# Altium schematic symbol library Project_Oshinoko.SchLib: 248 symbols (part 2 of 3)
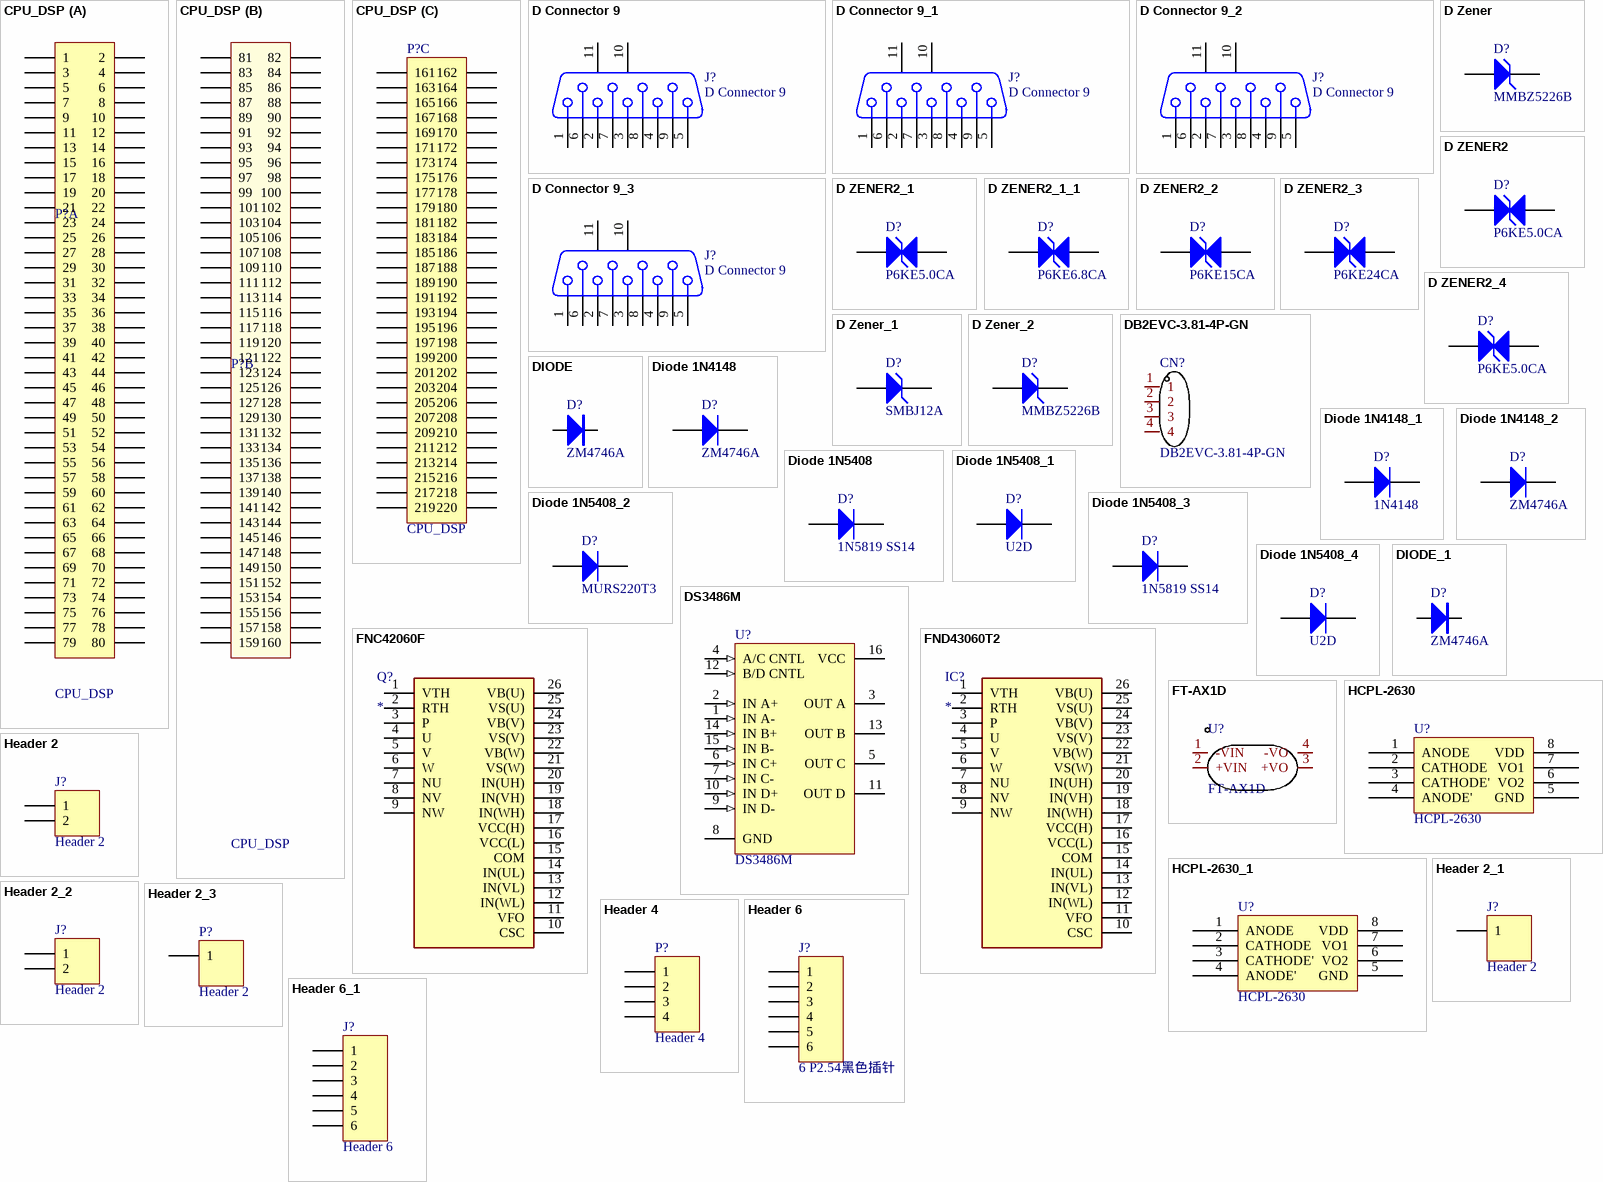
[diagram p8: symbols CPU_DSP to Header 6_1]

## Diode 1N5408_1
designator D?, comment U2D
3 Amp Medium Power Silicon Rectifier Diode; Published: 8-Jun-2000; LatestRevisionDate: 17-Jul-2002; LatestRevisionNote: Re-released for DXP Platform.; DatasheetVersion: Aug-1984; PackageReference: DO-201AD; Publisher: Altium Limited; PackageDescription: Diode, Axial; Body 9.5 x 5.3 mm (LxDia. max), Lead Dia. 1.32 mm (max); ComponentLink1Description: Manufacturer Link; ComponentLink1URL: http://www.irf.com/
footprint DO214AC
simulation model 1N5408 (DIODE)
signal-integrity model 1N5408
pins: 1, 2

## Diode 1N5408_2
designator D?, comment MURS220T3
3 Amp Medium Power Silicon Rectifier Diode; Published: 8-Jun-2000; LatestRevisionDate: 17-Jul-2002; LatestRevisionNote: Re-released for DXP Platform.; DatasheetDocument: Aug-1984; PackageReference: DO-201AD; Publisher: Altium Limited; ComponentLink1Description: Manufacturer Link; ComponentLink1URL: http://www.irf.com/
footprint DO214AA
simulation model 1N5408 (DIODE)
signal-integrity model 1N5408
pins: 1 A, 2 K

## Diode 1N5408_3
designator D?, comment 1N5819 SS14
3 Amp Medium Power Silicon Rectifier Diode; Published: 8-Jun-2000; LatestRevisionDate: 17-Jul-2002; LatestRevisionNote: Re-released for DXP Platform.; DatasheetDocument: Aug-1984; PackageReference: DO-201AD; Publisher: Altium Limited; ComponentLink1Description: Manufacturer Link; ComponentLink1URL: http://www.irf.com/
footprint DO214AC
simulation model 1N5408 (DIODE)
signal-integrity model 1N5408
pins: 1, 2

## Diode 1N5408_4
designator D?, comment U2D
3 Amp Medium Power Silicon Rectifier Diode; Published: 8-Jun-2000; LatestRevisionDate: 17-Jul-2002; LatestRevisionNote: Re-released for DXP Platform.; DatasheetVersion: Aug-1984; PackageReference: DO-201AD; Publisher: Altium Limited; PackageDescription: Diode, Axial; Body 9.5 x 5.3 mm (LxDia. max), Lead Dia. 1.32 mm (max); ComponentLink1Description: Manufacturer Link; ComponentLink1URL: http://www.irf.com/
footprint DO214AC
simulation model 1N5408 (DIODE)
signal-integrity model 1N5408
pins: 1, 2

## DIODE_1
designator D?, comment ZM4746A
Diode
footprint D/6/0.5/R2
footprint D/8/0.5/R2
footprint D/10/1/R1
footprint D/1206
footprint LL4148
pins: 1 A, 2 K

## DS3486M
designator U?
Quad RS-422, RS-423 Line Receiver; Published: 15-Apr-2002; LatestRevisionDate: 13-Apr-2006; LatestRevisionNote: IPC-7351 Footprint Added.; DatasheetVersion: May-1998; PackageVersion: 2000; PackageReference: M16A; Publisher: Altium Limited; PackageDescription: 16-Pin Small Outline Integrated Circuit 1.27 mm Pitch; Code_IPC: SOIC127P600-16; ComponentLink1Description: Manufacturer Link; ComponentLink1URL: http://www.national.com/; ComponentLink2Description: Datasheet; ComponentLink2URL: http://www.national.com/ds.cgi/DS/DS3486.pdf; ComponentLink3Description: URL Link1; ComponentLink3URL: http://www.national.com/pf/DS/DS3486.html
footprint M16A_N (SOIC, 16-Leads, Body 9.9x3.9mm, Pitch 1.27mm, IPC Medium Density)
footprint M16A_L (SOIC, 16-Leads, Body 9.9x3.9mm, Pitch 1.27mm, IPC High Density)
footprint M16A_M (SOIC, 16-Leads, Body 9.9x3.9mm, Pitch 1.27mm, IPC Low Density)
3D model M16A (16-Pin Small Outline Integrated Circuit 1.27 mm Pitch)
pins: 1 IN A- (in), 2 IN A+ (in), 3 OUT A (hiz), 4 A/C CNTL (in), 5 OUT C (hiz), 6 IN C+ (in), 7 IN C- (in), 8 GND (power), 9 IN D- (in), 10 IN D+ (in), 11 OUT D (hiz), 12 B/D CNTL (in), 13 OUT B (hiz), 14 IN B+ (in), 15 IN B- (in), 16 VCC (power)

## FNC42060F
designator Q?
Transistor IGBT; Manufacturer_Name: Aptina / ON Semiconductor; Manufacturer_Part_Number: FNC42060F; Datasheet Link: https://www.onsemi.com/pdf/datasheet/fnc42060f2-d.pdf; Height: 4.8mm; Mouser Part Number: 512-FNC42060F; Mouser Price/Stock: https://www.mouser.co.uk/ProductDetail/onsemi-Fairchild/FNC42060F?qs=udYk%2FVsBYxunyypMBLcvag%3D%3D
footprint FNC42060F
pins: 1 VTH, 2 RTH, 3 P, 4 U, 5 V, 6 W, 7 NU, 8 NV, 9 NW, 10 CSC, 11 VFO, 12 IN(WL), 13 IN(VL), 14 IN(UL), 15 COM, 16 VCC(L), 17 VCC(H), 18 IN(WH), 19 IN(VH), 20 IN(UH), 21 VS(W), 22 VB(W), 23 VS(V), 24 VB(V), 25 VS(U), 26 VB(U)

## FND43060T2
designator IC?
Integrated Circuit; Manufacturer_Name: onsemi; Manufacturer_Part_Number: FND43060T2; Datasheet Link: https://www.arrow.com/en/products/fnd43060t2/on-semiconductor; Height: 7.5mm; Mouser Part Number: 863-FND43060T2; Mouser Price/Stock: https://www.mouser.co.uk/ProductDetail/onsemi/FND43060T2?qs=2WXlatMagcHNgLgLax1Qtg%3D%3D; Arrow Part Number: FND43060T2; Arrow Price/Stock: https://www.arrow.com/en/products/fnd43060t2/on-semiconductor?region=nac
footprint FND43060T2
pins: 1 VTH, 2 RTH, 3 P, 4 U, 5 V, 6 W, 7 NU, 8 NV, 9 NW, 10 CSC, 11 VFO, 12 IN(WL), 13 IN(VL), 14 IN(UL), 15 COM, 16 VCC(L), 17 VCC(H), 18 IN(WH), 19 IN(VH), 20 IN(UH), 21 VS(W), 22 VB(W), 23 VS(V), 24 VB(V), 25 VS(U), 26 VB(U)

## FT-AX1D
designator U?
Manufacturer: MORNSUN(金升阳); Add into BOM: yes; Symbol: FT-AX1D; Device: FT-AX1D; LCSC Part Name: FT-AX1D; Supplier Part: C5127623; Manufacturer Part: FT-AX1D; Supplier Footprint: 插件; JLCPCB Part Class: 扩展库; Datasheet: https://atta.szlcsc.com/upload/public/pdf/source/20220812/46717D78754D3A4E3C88374812D1964E.pdf; Supplier: LCSC; Convert to PCB: yes; Name: FT-AX1D
footprint PWRM-TH_MORNSUN_FT-AX1D
3D model PWRM-TH_MORNSUN_FT-AX1D
footprint PWRM-TH_MORNSUN_FT-AX1D
pins: 1 -VIN, 2 +VIN, 3 +VO, 4 -VO

## HCPL-2630
designator U?
footprint DIP8
pins: 1 ANODE, 2 CATHODE, 3 CATHODE', 4 ANODE', 5 GND, 6 VO2, 7 VO1, 8 VDD

## HCPL-2630_1
designator U?, comment HCPL-2630
footprint DIP8
pins: 1 ANODE, 2 CATHODE, 3 CATHODE', 4 ANODE', 5 GND, 6 VO2, 7 VO1, 8 VDD

## Header 2
designator J?
Header, 2-Pin; LatestRevisionDate: 17-Jul-2002; LatestRevisionNote: Re-released for DXP Platform.; Publisher: Altium Limited
footprint 381S-2
signal-integrity model Connector
pins: 1, 2

## Header 2_1
designator J?, comment Header 2
Header, 2-Pin; LatestRevisionDate: 17-Jul-2002; LatestRevisionNote: Re-released for DXP Platform.; Publisher: Altium Limited
footprint 接地柱M3
signal-integrity model Connector
pins: 1

## Header 2_2
designator J?, comment Header 2
Header, 2-Pin; LatestRevisionDate: 17-Jul-2002; LatestRevisionNote: Re-released for DXP Platform.; Publisher: Altium Limited
footprint 381S-2
signal-integrity model Connector
pins: 1, 2

## Header 2_3
designator P?, comment Header 2
Header, 2-Pin; LatestRevisionDate: 17-Jul-2002; LatestRevisionNote: Re-released for DXP Platform.; Publisher: Altium Limited
footprint PCB焊接端子
signal-integrity model Connector
pins: 1

## Header 4
designator P?
Header, 4-Pin; LatestRevisionDate: 17-Jul-2002; LatestRevisionNote: Re-released for DXP Platform.; Publisher: Altium Limited
footprint 381S-4
signal-integrity model Connector
pins: 1, 2, 3, 4

## Header 6
designator J?, comment 6 P2.54黑色插针
Header, 6-Pin; LatestRevisionDate: 17-Jul-2002; LatestRevisionNote: Re-released for DXP Platform.; Publisher: Altium Limited
footprint 6P 100mil
signal-integrity model Connector
pins: 1, 2, 3, 4, 5, 6

## Header 6_1
designator J?, comment Header 6
Header, 6-Pin; LatestRevisionDate: 17-Jul-2002; LatestRevisionNote: Re-released for DXP Platform.; Publisher: Altium Limited
footprint 381S-6
signal-integrity model Connector
pins: 1, 2, 3, 4, 5, 6

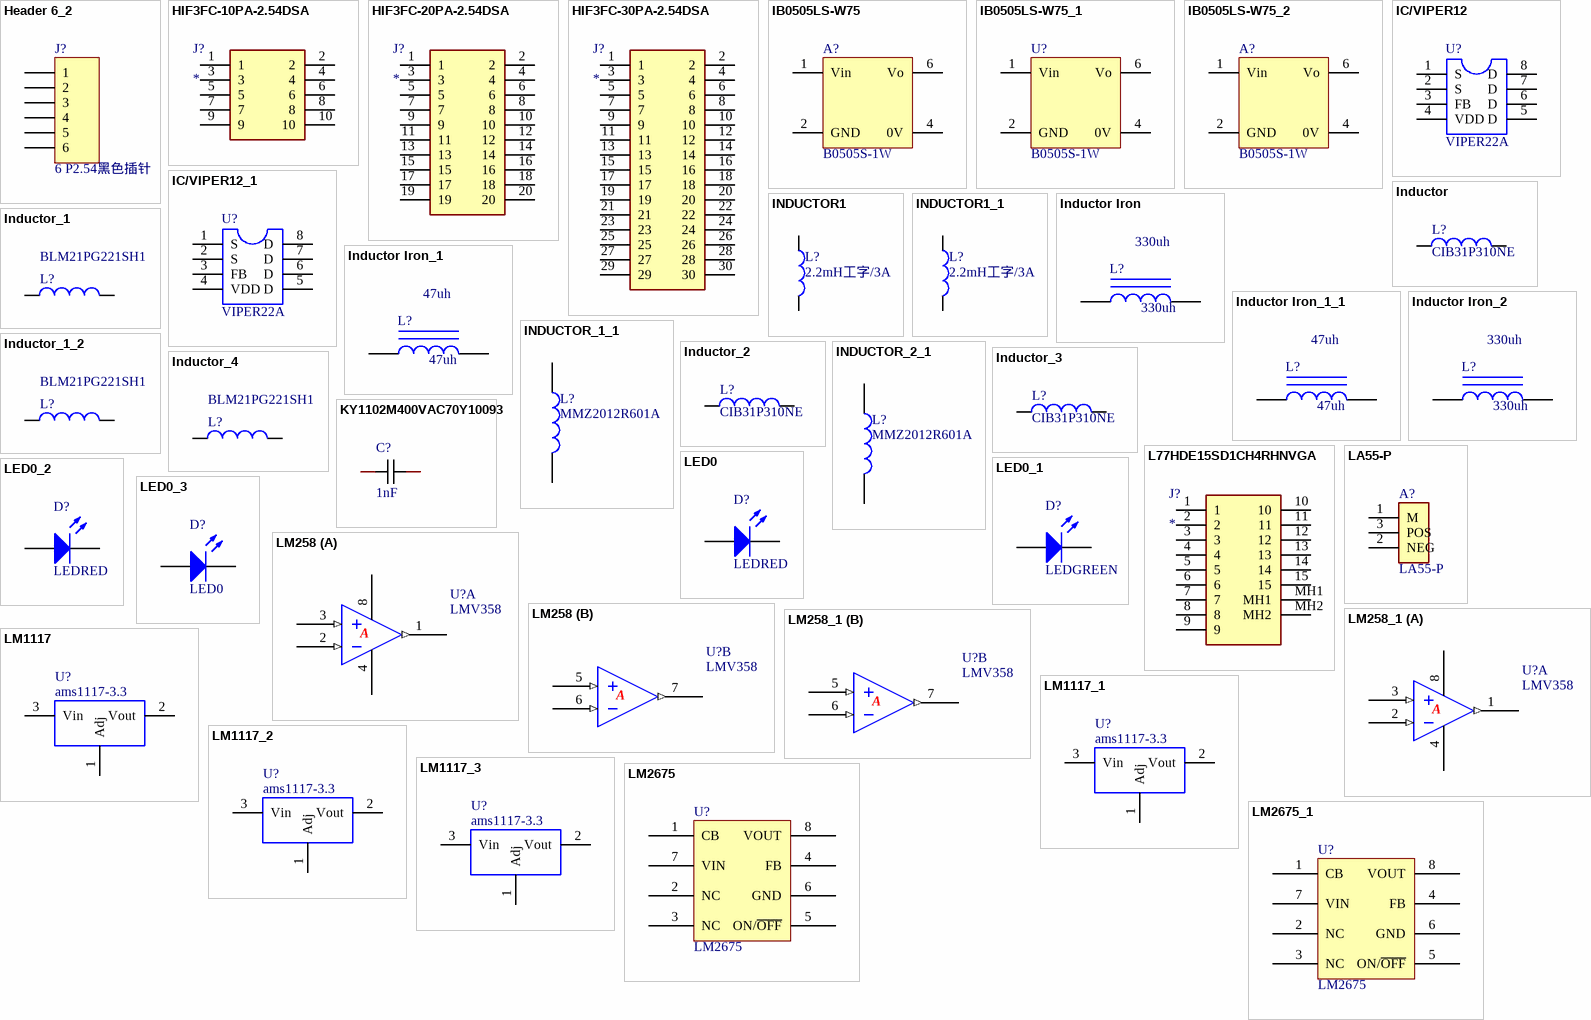
[diagram p3: symbols Header 6_2 to LM2675_1]

## Header 6_2
designator J?, comment 6 P2.54黑色插针
Header, 6-Pin; LatestRevisionDate: 17-Jul-2002; LatestRevisionNote: Re-released for DXP Platform.; Publisher: Altium Limited
footprint 6P 100mil
signal-integrity model Connector
pins: 1, 2, 3, 4, 5, 6

## HIF3FC-10PA-2.54DSA
designator J?
Connector; Manufacturer_Name: Hirose; Manufacturer_Part_Number: HIF3FC-10PA-2.54DSA(71); Datasheet Link: https://componentsearchengine.com/Datasheets/1/HIF3FC-10PA-2.54DSA(71).pdf; Height: 9.2mm; Mouser Part Number: 798-HIF3FC10PA254D71; Mouser Price/Stock: https://www.mouser.co.uk/ProductDetail/Hirose-Connector/HIF3FC-10PA-2.54DSA71?qs=eDUdFcBPps26f2LJxn%252B8VA%3D%3D
footprint SHDR10W50P254_2X5_2020X850X920P
pins: 1, 2, 3, 4, 5, 6, 7, 8, 9, 10

## HIF3FC-20PA-2.54DSA
designator J?
Connector; Manufacturer_Name: Hirose; Manufacturer_Part_Number: HIF3FC-20PA-2.54DSA(71); Datasheet Link: https://www.hirose.com/product/en/products/HIF3FC/HIF3FC-20PA-2.54DSA%2871%29/; Height: 9.5mm; Mouser Part Number: 798-HIF3FC20PA254D71; Mouser Price/Stock: https://www.mouser.co.uk/ProductDetail/Hirose-Connector/HIF3FC-20PA-254DSA71?qs=eDUdFcBPps3XO21sCrEU%252BQ%3D%3D; Arrow Part Number: HIF3FC-20PA-2.54DSA(71); Arrow Price/Stock: https://www.arrow.com/en/products/hif3fc-20pa-2.54dsa-71/hirose-electric?region=nac
footprint SHDR20W56P254_2X10_3290X850X950P
pins: 1, 2, 3, 4, 5, 6, 7, 8, 9, 10, 11, 12, 13, 14, 15, 16, 17, 18, 19, 20

## HIF3FC-30PA-2.54DSA
designator J?
Connector; Manufacturer_Name: Hirose; Manufacturer_Part_Number: HIF3FC-30PA-2.54DSA(71); Datasheet Link: https://datasheet.datasheetarchive.com/originals/distributors/SFDatasheet-7/sf-000141320.pdf; Height: 12mm; Mouser Part Number: 798-HIF3FC30PA254D71; Mouser Price/Stock: https://www.mouser.co.uk/ProductDetail/Hirose-Connector/HIF3FC-30PA-254DSA71?qs=eDUdFcBPps32%2FyAdBVx6ww%3D%3D
footprint SHDR30W50P254_2X15_4560X850X1200P
pins: 1, 2, 3, 4, 5, 6, 7, 8, 9, 10, 11, 12, 13, 14, 15, 16, 17, 18, 19, 20, 21, 22, 23, 24, 25, 26, 27, 28, 29, 30

## IB0505LS-W75
designator A?, comment B0505S-1W
footprint B0505S-1W
pins: 1 Vin, 2 GND, 4 0V, 6 Vo

## IB0505LS-W75_1
designator U?, comment B0505S-1W
footprint B0505S-1W
pins: 1 Vin, 2 GND, 4 0V, 6 Vo

## IB0505LS-W75_2
designator A?, comment B0505S-1W
footprint B0505S-1W
pins: 1 Vin, 2 GND, 4 0V, 6 Vo

## IC/VIPER12
designator U?, comment VIPER22A
footprint DIP8
pins: 1 S, 2 S, 3 FB, 4 VDD, 5 D, 6 D, 7 D, 8 D
2 alternate drawings of the same symbol

## IC/VIPER12_1
designator U?, comment VIPER22A
footprint DIP8
pins: 1 S, 2 S, 3 FB, 4 VDD, 5 D, 6 D, 7 D, 8 D
2 alternate drawings of the same symbol

## Inductor
designator L?, comment CIB31P310NE
Inductor; Code_IEC: 1005; Published: 8-Jun-2000; LatestRevisionDate: 17-Jul-2002; LatestRevisionNote: Re-released for DXP Platform.; PackageReference: 0402-A; Publisher: Altium Limited; Code_JEITA: 0402; Value: CIB31P310NE
footprint 0402-A (Chip Inductor; Body 1 x 0.5 mm (LxW typ))
footprint L0603 (Chip Inductor; Body 1.6 x 0.8 mm (LxW typ))
footprint 2012_Chip (2012 Chip; Chip Inductor; Body 2.0 x 1.2 mm (LxW typ))
footprint 2029 (Chip Inductor; Body 2 x 1.2 mm (LxW typ))
footprint 3261 (3216 Chip; Chip Inductor; Body 3.2 x 1.6 mm (LxW typ))
footprint 4564_Chip (4564 Chip; Chip Inductor; Body 4.5 x 6.4 mm (LxW typ))
simulation model INDUCTOR (Inductor)
signal-integrity model Inductor
footprint 1206
pins: 1, 2

## INDUCTOR1
designator L?, comment 2.2mH工字/3A
INDUCTOR
footprint L/9/2/15/10
footprint L\5\10
pins: 1, 2
2 alternate drawings of the same symbol

## INDUCTOR1_1
designator L?, comment 2.2mH工字/3A
INDUCTOR
footprint L/9/2/15/10
footprint L\5\10
pins: 1, 2
2 alternate drawings of the same symbol

## Inductor Iron
designator L?, comment 330uh
Magnetic-Core Inductor; Published: 24-Mar-1999; LatestRevisionDate: 17-Jul-2002; LatestRevisionNote: Re-released for DXP Platform.; PackageReference: AXIAL-0.9; Publisher: Altium Limited; Value: 330uh
footprint L_7*7
simulation model INDUCTOR (Inductor)
signal-integrity model Inductor Iron
pins: 1, 2

## Inductor Iron_1
designator L?, comment 47uh
Magnetic-Core Inductor; Published: 24-Mar-1999; LatestRevisionDate: 17-Jul-2002; LatestRevisionNote: Re-released for DXP Platform.; PackageReference: AXIAL-0.9; Publisher: Altium Limited; Value: 47uh
footprint L_7*7
simulation model INDUCTOR (Inductor)
signal-integrity model Inductor Iron
pins: 1, 2

## Inductor Iron_1_1
designator L?, comment 47uh
Magnetic-Core Inductor; Published: 24-Mar-1999; LatestRevisionDate: 17-Jul-2002; LatestRevisionNote: Re-released for DXP Platform.; PackageReference: AXIAL-0.9; Publisher: Altium Limited; Value: 47uh
footprint L_7*7
simulation model INDUCTOR (Inductor)
signal-integrity model Inductor Iron
pins: 1, 2

## Inductor Iron_2
designator L?, comment 330uh
Magnetic-Core Inductor; Published: 24-Mar-1999; LatestRevisionDate: 17-Jul-2002; LatestRevisionNote: Re-released for DXP Platform.; PackageReference: AXIAL-0.9; Publisher: Altium Limited; Value: 330uh
footprint L_7*7
simulation model INDUCTOR (Inductor)
signal-integrity model Inductor Iron
pins: 1, 2

## Inductor_1
designator L?, comment BLM21PG221SH1
Inductor; Code_IEC: 1005; Published: 8-Jun-2000; LatestRevisionDate: 17-Jul-2002; LatestRevisionNote: Re-released for DXP Platform.; PackageReference: 0402-A; Publisher: Altium Limited; Code_JEITA: 0402; Value: BLM21PG221SH1
footprint 0402-A (Chip Inductor; Body 1 x 0.5 mm (LxW typ))
footprint L0603 (Chip Inductor; Body 1.6 x 0.8 mm (LxW typ))
footprint 2012_Chip (2012 Chip; Chip Inductor; Body 2.0 x 1.2 mm (LxW typ))
footprint 2029 (Chip Inductor; Body 2 x 1.2 mm (LxW typ))
footprint 3261 (3216 Chip; Chip Inductor; Body 3.2 x 1.6 mm (LxW typ))
footprint 4564_Chip (4564 Chip; Chip Inductor; Body 4.5 x 6.4 mm (LxW typ))
simulation model INDUCTOR (Inductor)
signal-integrity model Inductor
footprint 0805
pins: 1, 2

## INDUCTOR_1_1
designator L?, comment MMZ2012R601A
footprint 0805
pins: 1, 2

## Inductor_1_2
designator L?, comment BLM21PG221SH1
Inductor; Code_IEC: 1005; Published: 8-Jun-2000; LatestRevisionDate: 17-Jul-2002; LatestRevisionNote: Re-released for DXP Platform.; PackageReference: 0402-A; Publisher: Altium Limited; Code_JEITA: 0402; Value: BLM21PG221SH1
footprint 0402-A (Chip Inductor; Body 1 x 0.5 mm (LxW typ))
footprint L0603 (Chip Inductor; Body 1.6 x 0.8 mm (LxW typ))
footprint 2012_Chip (2012 Chip; Chip Inductor; Body 2.0 x 1.2 mm (LxW typ))
footprint 2029 (Chip Inductor; Body 2 x 1.2 mm (LxW typ))
footprint 3261 (3216 Chip; Chip Inductor; Body 3.2 x 1.6 mm (LxW typ))
footprint 4564_Chip (4564 Chip; Chip Inductor; Body 4.5 x 6.4 mm (LxW typ))
simulation model INDUCTOR (Inductor)
signal-integrity model Inductor
footprint 0805
pins: 1, 2

## Inductor_2
designator L?, comment CIB31P310NE
Inductor; Code_IEC: 1005; Published: 8-Jun-2000; LatestRevisionDate: 17-Jul-2002; LatestRevisionNote: Re-released for DXP Platform.; PackageReference: 0402-A; Publisher: Altium Limited; Code_JEITA: 0402; Value: CIB31P310NE
footprint 0402-A (Chip Inductor; Body 1 x 0.5 mm (LxW typ))
footprint L0603 (Chip Inductor; Body 1.6 x 0.8 mm (LxW typ))
footprint 2012_Chip (2012 Chip; Chip Inductor; Body 2.0 x 1.2 mm (LxW typ))
footprint 2029 (Chip Inductor; Body 2 x 1.2 mm (LxW typ))
footprint 3261 (3216 Chip; Chip Inductor; Body 3.2 x 1.6 mm (LxW typ))
footprint 4564_Chip (4564 Chip; Chip Inductor; Body 4.5 x 6.4 mm (LxW typ))
simulation model INDUCTOR (Inductor)
signal-integrity model Inductor
footprint 1206
pins: 1, 2

## INDUCTOR_2_1
designator L?, comment MMZ2012R601A
footprint 0805
pins: 1, 2

## Inductor_3
designator L?, comment CIB31P310NE
Inductor; Code_IEC: 1005; Published: 8-Jun-2000; LatestRevisionDate: 17-Jul-2002; LatestRevisionNote: Re-released for DXP Platform.; PackageReference: 0402-A; Publisher: Altium Limited; Code_JEITA: 0402; Value: CIB31P310NE
footprint 0402-A (Chip Inductor; Body 1 x 0.5 mm (LxW typ))
footprint L0603 (Chip Inductor; Body 1.6 x 0.8 mm (LxW typ))
footprint 2012_Chip (2012 Chip; Chip Inductor; Body 2.0 x 1.2 mm (LxW typ))
footprint 2029 (Chip Inductor; Body 2 x 1.2 mm (LxW typ))
footprint 3261 (3216 Chip; Chip Inductor; Body 3.2 x 1.6 mm (LxW typ))
footprint 4564_Chip (4564 Chip; Chip Inductor; Body 4.5 x 6.4 mm (LxW typ))
simulation model INDUCTOR (Inductor)
signal-integrity model Inductor
footprint 1206
pins: 1, 2

## Inductor_4
designator L?, comment BLM21PG221SH1
Inductor; Code_IEC: 1005; Published: 8-Jun-2000; LatestRevisionDate: 17-Jul-2002; LatestRevisionNote: Re-released for DXP Platform.; PackageReference: 0402-A; Publisher: Altium Limited; Code_JEITA: 0402; Value: BLM21PG221SH1
footprint 0402-A (Chip Inductor; Body 1 x 0.5 mm (LxW typ))
footprint L0603 (Chip Inductor; Body 1.6 x 0.8 mm (LxW typ))
footprint 2012_Chip (2012 Chip; Chip Inductor; Body 2.0 x 1.2 mm (LxW typ))
footprint 2029 (Chip Inductor; Body 2 x 1.2 mm (LxW typ))
footprint 3261 (3216 Chip; Chip Inductor; Body 3.2 x 1.6 mm (LxW typ))
footprint 4564_Chip (4564 Chip; Chip Inductor; Body 4.5 x 6.4 mm (LxW typ))
simulation model INDUCTOR (Inductor)
signal-integrity model Inductor
footprint 0805
pins: 1, 2

## KY1102M400VAC70Y10093
designator C?, comment 1nF
等级:Y1;容值:1nF;精度:±20%;电压(AC):400V;; Manufacturer: KNSCHA(科尼盛); Symbol: KY1102M400VAC70Y10093; Add into BOM: yes; Subclass: Y1; Tolerance: ±20%; Voltage(AC): 400V; Name: 1nF; Device: KY1102M400VAC70Y10093; LCSC Part Name: 等级:Y1 1nF ±20% 400V; Supplier Part: C2943996; Manufacturer Part: KY1102M400VAC70Y10093; Supplier Footprint: 插件,P=10mm; Datasheet: https://atta.szlcsc.com/upload/public/pdf/source/20220125/2D2B80E2C5D988A5B116EA64517B63EA.pdf; Supplier: LCSC; Convert to PCB: yes; Value: 1nF
footprint CAP-TH_L7.5-W4.5-P10.00-D0.6
3D model CAP-TH_L7.5-W4.5-P10.00-D0.6
pins: 1, 2

## L77HDE15SD1CH4RHNVGA
designator J?
Connector; Manufacturer_Name: Amphenol; Manufacturer_Part_Number: L77HDE15SD1CH4RHNVGA; Datasheet Link: https://componentsearchengine.com/Datasheets/1/L77HDE15SD1CH4RHNVGA.pdf; Height: 12.55mm; Mouser Part Number: 523-7HDE15SDH4RHNVGA; Mouser Price/Stock: https://www.mouser.co.uk/ProductDetail/Amphenol-Commercial-Products/L77HDE15SD1CH4RHNVGA?qs=f9yNj16SXrKPVxRw%2FcVQYg%3D%3D; Arrow Part Number: L77HDE15SD1CH4RHNVGA; Arrow Price/Stock: https://www.arrow.com/en/products/l77hde15sd1ch4rhnvga/amphenol-fci?region=nac
footprint L77HDE15SD1CH4RHNVGA
pins: 1, 2, 3, 4, 5, 6, 7, 8, 9, 10, 11, 12, 13, 14, 15, MH1, MH2

## LA55-P
designator A?
Current Sensor 50A 1 Channel Hall Effect, Closed Loop Bidirectional Module, Single Pass Through; MF: LEM USA; MP: LA 55-P; Availability: Unavailable; SnapEDA_Link: https://www.snapeda.com/parts/LA%2055-P/LEM%20USA%20Inc./view-part/38924/?ref=snap; Value: *; Package: Module LEM USA; Price: None
footprint XDCR_LA55-P
footprint XDCR_LA55-P
pins: 1 M (power), 2 NEG (power), 3 POS (power)

## LED0
designator D?, comment LEDRED
Typical INFRARED GaAs LED; Published: 8-Jun-2000; LatestRevisionDate: 08-Jul-2005; LatestRevisionNote: Mech Layer 1 removed.; PackageReference: LED-0; Publisher: Altium Limited; PackageDescription: LED; 2 Leads
footprint L0805
simulation model LED0 (Diode)
pins: 1 A, 2 K

## LED0_1
designator D?, comment LEDGREEN
Typical INFRARED GaAs LED; Published: 8-Jun-2000; LatestRevisionDate: 08-Jul-2005; LatestRevisionNote: Mech Layer 1 removed.; PackageReference: LED-0; Publisher: Altium Limited; PackageDescription: LED; 2 Leads
footprint L0805
simulation model LED0 (Diode)
pins: 1 A, 2 K

## LED0_2
designator D?, comment LEDRED
Typical INFRARED GaAs LED; Published: 8-Jun-2000; LatestRevisionDate: 08-Jul-2005; LatestRevisionNote: Mech Layer 1 removed.; PackageReference: LED-0; Publisher: Altium Limited; PackageDescription: LED; 2 Leads
footprint L0805
simulation model LED0 (Diode)
pins: 1 A, 2 K

## LED0_3
designator D?, comment LED0
Typical INFRARED GaAs LED; Published: 8-Jun-2000; LatestRevisionDate: 08-Jul-2005; LatestRevisionNote: Mech Layer 1 removed.; PackageReference: LED-0; Publisher: Altium Limited; PackageDescription: LED; 2 Leads
footprint LED-0 (LED; 2 Leads)
simulation model LED0 (Diode)
footprint 1210 (Footprint not found)
footprint l0805
pins: 1 A, 2 K

## LM258
designator U?, comment LMV358
footprint so-8
part A pins: 1 (out), 2 (in), 3 (in), 4 (power), 8 (power)
part B pins: 5 (in), 6 (in), 7 (out)
part A text: A
part B text: A

## LM258_1
designator U?, comment LMV358
footprint so-8
part A pins: 1 (out), 2 (in), 3 (in), 4 (power), 8 (power)
part B pins: 5 (in), 6 (in), 7 (out)
part A text: A
part B text: A

## LM1117
designator U?, comment ams1117-3.3
footprint SOT-223 (SOT-223/SC-73; 4 Leads; Body 6.7 x 7.3 mm, inc. leads (LxW max))
pins: 1 Adj, 2 Vout, 3 Vin

## LM1117_1
designator U?, comment ams1117-3.3
footprint SOT-223 (SOT-223/SC-73; 4 Leads; Body 6.7 x 7.3 mm, inc. leads (LxW max))
pins: 1 Adj, 2 Vout, 3 Vin

## LM1117_2
designator U?, comment ams1117-3.3
footprint SOT-223 (SOT-223/SC-73; 4 Leads; Body 6.7 x 7.3 mm, inc. leads (LxW max))
pins: 1 Adj, 2 Vout, 3 Vin

## LM1117_3
designator U?, comment ams1117-3.3
footprint SOT-223 (SOT-223/SC-73; 4 Leads; Body 6.7 x 7.3 mm, inc. leads (LxW max))
pins: 1 Adj, 2 Vout, 3 Vin

## LM2675
designator U?
footprint SOIC-8
pins: 1 CB, 2 NC, 3 NC, 4 FB, 5 ON/~{OFF}, 6 GND, 7 VIN, 8 VOUT

## LM2675_1
designator U?, comment LM2675
footprint SOIC-8
pins: 1 CB, 2 NC, 3 NC, 4 FB, 5 ON/~{OFF}, 6 GND, 7 VIN, 8 VOUT

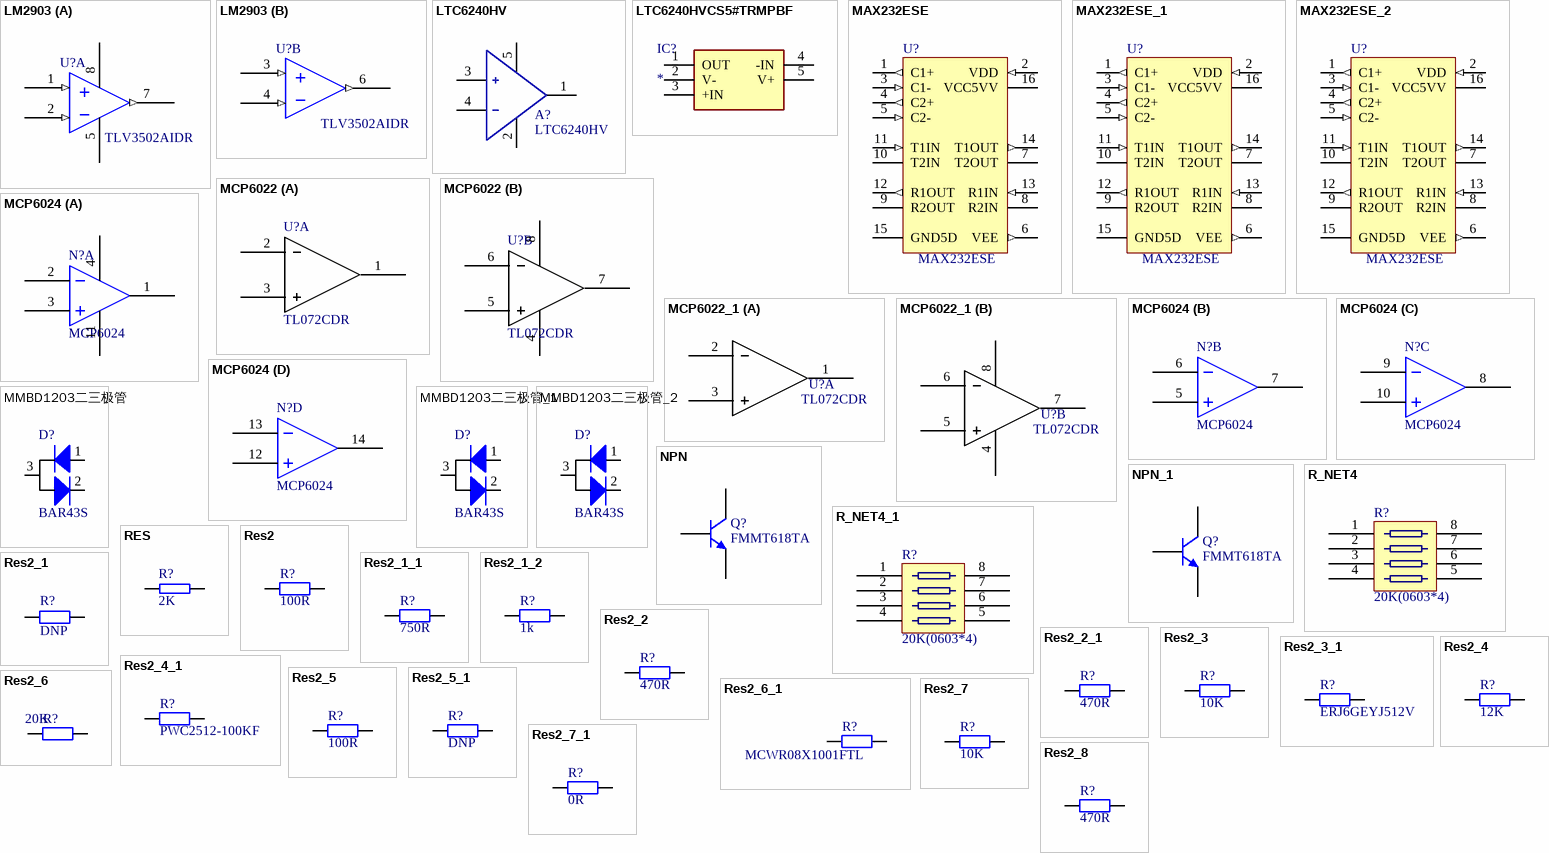
[diagram p4: symbols LM2903 to Res2_8]

## LM2903
designator U?, comment TLV3502AIDR
Analogue Comparator, Dual, Differential, 2 Comparators, 300 ns, 2V to 36V, SOIC, 8 Pins; Manufacturer Name: TEXAS INSTRUMENTS
footprint SOIC-8
part A pins: 1 (in), 2 (in), 5 (power), 7 (out), 8 (power)
part B pins: 3 (in), 4 (in), 6 (out)
1 alternate drawing of the same symbol

## LTC6240HV
designator A?
OP AMP, +-5.5V, 18MHZ, 10V/US, 5TSOT23; Produttore: LINEAR TECHNOLOGY; Codice produttore: LTC6240HVHS5#PBF; Classe: IC; Farnell #: 2294747; Package: sot23-5
footprint SOT95P280X100-5N
pins: 1 out, 2 Vee, 3 +IN, 4 -IN, 5 Vcc

## LTC6240HVCS5#TRMPBF
designator IC?
Integrated Circuit; Manufacturer_Name: Analog Devices; Manufacturer_Part_Number: LTC6240HVCS5#TRMPBF; Datasheet Link: https://www.analog.com/media/en/technical-documentation/data-sheets/624012fe.pdf; Height: 1mm; Mouser Part Number: 584-C6240HVCS5TRMPBF; Mouser Price/Stock: https://www.mouser.co.uk/ProductDetail/Analog-Devices-Linear-Technology/LTC6240HVCS5TRMPBF?qs=hVkxg5c3xu%2FbryxB2lQ%2FzQ%3D%3D; Arrow Part Number: LTC6240HVCS5#TRMPBF; Arrow Price/Stock: https://www.arrow.com/en/products/ltc6240hvcs5trmpbf/linear-technology
footprint SOT95P280X100-5N
pins: 1 OUT, 2 V-, 3 +IN, 4 -IN, 5 V+

## MAX232ESE
designator U?
+5V Powered, Multi-Channel RS-232 Driver/Receiver; Published: 16-Jan-2001; LatestRevisionDate: 13-Apr-2006; LatestRevisionNote: IPC-7351 Footprint Added.; PackageReference: NSO16; Publisher: Altium Limited; PackageDescription: 16-Pin Small Outline Integrated Circuit 1.27 mm Pitch; Code_JEDEC: MS-012-AC; Code_IPC: SOIC127P600-16; ComponentLink1Description: Manufacturer Link; ComponentLink1URL: http://www.maxim-ic.com/; ComponentLink2Description: Datasheet; ComponentLink2URL: http://pdfserv.maxim-ic.com/en/ds/MAX220-MAX249.pdf
footprint NSO16_N
footprint NSO16_L
footprint NSO16_M
pins: 1 C1+ (out), 2 VDD (in), 3 C1- (in), 4 C2+ (out), 5 C2- (in), 6 VEE (out), 7 T2OUT, 8 R2IN, 9 R2OUT, 10 T2IN, 11 T1IN (in), 12 R1OUT (out), 13 R1IN (in), 14 T1OUT (out), 15 GND5D (power), 16 VCC5VV (power)
2 alternate drawings of the same symbol

## MAX232ESE_1
designator U?, comment MAX232ESE
+5V Powered, Multi-Channel RS-232 Driver/Receiver; Published: 16-Jan-2001; LatestRevisionDate: 13-Apr-2006; LatestRevisionNote: IPC-7351 Footprint Added.; PackageReference: NSO16; Publisher: Altium Limited; PackageDescription: 16-Pin Small Outline Integrated Circuit 1.27 mm Pitch; Code_JEDEC: MS-012-AC; Code_IPC: SOIC127P600-16; ComponentLink1Description: Manufacturer Link; ComponentLink1URL: http://www.maxim-ic.com/; ComponentLink2Description: Datasheet; ComponentLink2URL: http://pdfserv.maxim-ic.com/en/ds/MAX220-MAX249.pdf
footprint NSO16_N
footprint NSO16_L
footprint NSO16_M
pins: 1 C1+ (out), 2 VDD (in), 3 C1- (in), 4 C2+ (out), 5 C2- (in), 6 VEE (out), 7 T2OUT, 8 R2IN, 9 R2OUT, 10 T2IN, 11 T1IN (in), 12 R1OUT (out), 13 R1IN (in), 14 T1OUT (out), 15 GND5D (power), 16 VCC5VV (power)
2 alternate drawings of the same symbol

## MAX232ESE_2
designator U?, comment MAX232ESE
+5V Powered, Multi-Channel RS-232 Driver/Receiver; Published: 16-Jan-2001; LatestRevisionDate: 13-Apr-2006; LatestRevisionNote: IPC-7351 Footprint Added.; PackageReference: NSO16; Publisher: Altium Limited; PackageDescription: 16-Pin Small Outline Integrated Circuit 1.27 mm Pitch; Code_JEDEC: MS-012-AC; Code_IPC: SOIC127P600-16; ComponentLink1Description: Manufacturer Link; ComponentLink1URL: http://www.maxim-ic.com/; ComponentLink2Description: Datasheet; ComponentLink2URL: http://pdfserv.maxim-ic.com/en/ds/MAX220-MAX249.pdf
footprint NSO16_N
footprint NSO16_L
footprint NSO16_M
pins: 1 C1+ (out), 2 VDD (in), 3 C1- (in), 4 C2+ (out), 5 C2- (in), 6 VEE (out), 7 T2OUT, 8 R2IN, 9 R2OUT, 10 T2IN, 11 T1IN (in), 12 R1OUT (out), 13 R1IN (in), 14 T1OUT (out), 15 GND5D (power), 16 VCC5VV (power)
2 alternate drawings of the same symbol

## MCP6022
designator U?, comment TL072CDR
Operational Amplifier, Dual, 2 Amplifier, 10 MHz, 7 V/μs, 2.5V to 5.5V, SOIC, 8 Pins; Manufacturer Name: *
footprint SOIC-8
part A pins: 1, 2, 3
part B pins: 4, 5, 6, 7, 8

## MCP6022_1
designator U?, comment TL072CDR
footprint SOIC-8
part A pins: 1, 2, 3
part B pins: 4, 5, 6, 7, 8

## MCP6024
designator N?
footprint SOIC14_M (14-Pin Small Outline Integrated Circuit 1.27 mm Pitch, IPC Low Density)
part A pins: 1, 2, 3, 4, 11
part B pins: 5, 6, 7
part C pins: 8, 9, 10
part D pins: 12, 13, 14
2 alternate drawings of the same symbol

## MMBD1203二三极管
designator D?, comment BAR43S
footprint SOT-23
pins: 1, 2, 3

## MMBD1203二三极管_1
designator D?, comment BAR43S
footprint SOT-23
pins: 1, 2, 3

## MMBD1203二三极管_2
designator D?, comment BAR43S
footprint SOT-23
pins: 1, 2, 3

## NPN
designator Q?, comment FMMT618TA
NPN Bipolar Transistor; Published: 8-Jun-2000; LatestRevisionDate: 17-Jul-2002; LatestRevisionNote: Re-released for DXP Platform.; PackageReference: TO-226-AA; Publisher: Altium Limited; PackageDescription: TO, Flat Index; 3 In-Line, Axial Leads; Body Dia. 4.8mm; Leads 0.55 x 0.51 mm (max); Code_JEDEC: TO-226-AA
footprint SOT-23
simulation model NPN
signal-integrity model NPN
pins: 1 B, 2 E, 3 C

## NPN_1
designator Q?, comment FMMT618TA
NPN Bipolar Transistor; Published: 8-Jun-2000; LatestRevisionDate: 17-Jul-2002; LatestRevisionNote: Re-released for DXP Platform.; PackageReference: TO-226-AA; Publisher: Altium Limited; PackageDescription: TO, Flat Index; 3 In-Line, Axial Leads; Body Dia. 4.8mm; Leads 0.55 x 0.51 mm (max); Code_JEDEC: TO-226-AA
footprint SOT-23
simulation model NPN
signal-integrity model NPN
pins: 1 B, 2 E, 3 C

## R_NET4
designator R?, comment 20K(0603*4)
Value: 20k
footprint R_NET4 (0603*4)
pins: 1 X1, 2 X2, 3 V-BAT, 4 VSS, 5 SDA, 6 SCL, 7 SQW/OUT, 8 VCC

## R_NET4_1
designator R?, comment 20K(0603*4)
Value: 20k
footprint R_NET4 (0603*4)
pins: 1 X1, 2 X2, 3 V-BAT, 4 VSS, 5 SDA, 6 SCL, 7 SQW/OUT, 8 VCC

## RES
designator R?, comment 2K
footprint R/0805
footprint R/6/0.125/R2@
footprint R/10/0.25/R2
footprint R/10/0.25/R2@
footprint 1206
pins: 1, 2
2 alternate drawings of the same symbol

## Res2
designator R?, comment 100R
Resistor; Published: *; LatestRevisionDate: *; LatestRevisionNote: *; PackageReference: *; Publisher: *
footprint AXIAL-0.4
footprint 0805
footprint SM/R_0805
footprint R/0805/SMT
footprint 0805
pins: 1, 2
2 alternate drawings of the same symbol

## Res2_1
designator R?, comment DNP
Resistor; Published: 8-Jun-2000; LatestRevisionDate: 17-Jul-2002; LatestRevisionNote: Re-released for DXP Platform.; PackageReference: AXIAL-0.4; Publisher: Altium Limited
footprint AXIAL-0.4 (Resistor; 2 Leads)
simulation model RESISTOR (Resistor)
signal-integrity model Res
footprint 2512
pins: 1, 2

## Res2_1_1
designator R?, comment 750R
Resistor; Published: 8-Jun-2000; LatestRevisionDate: 17-Jul-2002; LatestRevisionNote: Re-released for DXP Platform.; Publisher: Altium Limited
footprint 0805
simulation model RESISTOR (Resistor)
signal-integrity model Res
pins: 1, 2

## Res2_1_2
designator R?, comment 1k
SMD Chip Resistor, 0805 [2012 Metric],; Manufacturer Name: PANASONIC ELECTRONIC COMPONENTS; Value: 5.1K; Published: 8-Jun-2000; LatestRevisionDate: 17-Jul-2002; LatestRevisionNote: Re-released for DXP Platform.; PackageReference: AXIAL-0.4; Publisher: Altium Limited
footprint AXIAL-0.4 (Resistor; 2 Leads)
simulation model RESISTOR (Resistor)
signal-integrity model Res
footprint 0603
footprint 0805
pins: 1, 2

## Res2_2
designator R?, comment 470R
Resistor; Published: 8-Jun-2000; LatestRevisionDate: 17-Jul-2002; LatestRevisionNote: Re-released for DXP Platform.; Publisher: Altium Limited
footprint 0805
simulation model RESISTOR (Resistor)
signal-integrity model Res
pins: 1, 2

## Res2_2_1
designator R?, comment 470R
Resistor; Published: 8-Jun-2000; LatestRevisionDate: 17-Jul-2002; LatestRevisionNote: Re-released for DXP Platform.; PackageReference: AXIAL-0.4; Publisher: Altium Limited; Value: 470R
footprint AXIAL-0.4 (Resistor; 2 Leads)
simulation model RESISTOR (Resistor)
signal-integrity model Res
footprint 0603
footprint 0805
pins: 1, 2

## Res2_3
designator R?, comment 10K
Resistor; Published: 8-Jun-2000; LatestRevisionDate: 17-Jul-2002; LatestRevisionNote: Re-released for DXP Platform.; PackageReference: AXIAL-0.4; Publisher: Altium Limited
footprint AXIAL-0.4 (Resistor; 2 Leads)
simulation model RESISTOR (Resistor)
signal-integrity model Res
footprint 0805
footprint 0805
pins: 1, 2

## Res2_3_1
designator R?, comment ERJ6GEYJ512V
SMD Chip Resistor, 0805 [2012 Metric], 5.1 kohm, ERJ6GE Series, 150 V, Thick Film, 125 mW; Manufacturer Name: PANASONIC ELECTRONIC COMPONENTS; Value: 5.1K; Published: 8-Jun-2000; LatestRevisionDate: 17-Jul-2002; LatestRevisionNote: Re-released for DXP Platform.; PackageReference: AXIAL-0.4; Publisher: Altium Limited
footprint AXIAL-0.4 (Resistor; 2 Leads)
simulation model RESISTOR (Resistor)
signal-integrity model Res
footprint 0603
footprint 0805
pins: 1, 2

## Res2_4
designator R?, comment 12K
Resistor; Value: 10K; Published: 8-Jun-2000; LatestRevisionDate: 17-Jul-2002; LatestRevisionNote: Re-released for DXP Platform.; PackageReference: AXIAL-0.4; Publisher: Altium Limited
footprint AXIAL-0.4 (Resistor; 2 Leads)
simulation model RESISTOR (Resistor)
signal-integrity model Res
footprint 0603
footprint 0805
pins: 1, 2

## Res2_4_1
designator R?, comment PWC2512-100KF
SMD Chip Resistor, 2512 [6432 Metric], 100 kohm, PWC Series, 500 V, Thick Film, 1.5 W; Manufacturer Name: TT ELECTRONICS / WELWYN; Published: 8-Jun-2000; LatestRevisionDate: 17-Jul-2002; LatestRevisionNote: Re-released for DXP Platform.; PackageReference: AXIAL-0.4; Publisher: Altium Limited
footprint AXIAL-0.4 (Resistor; 2 Leads)
simulation model RESISTOR (Resistor)
signal-integrity model Res
footprint 0805
footprint 2512 (Footprint not found)
pins: 1, 2

## Res2_5
designator R?, comment 100R
Resistor; Value: 470R; Published: 8-Jun-2000; LatestRevisionDate: 17-Jul-2002; LatestRevisionNote: Re-released for DXP Platform.; PackageReference: AXIAL-0.4; Publisher: Altium Limited
footprint AXIAL-0.4 (Resistor; 2 Leads)
simulation model RESISTOR (Resistor)
signal-integrity model Res
footprint 0603
footprint 0805
pins: 1, 2

## Res2_5_1
designator R?, comment DNP
Resistor; Published: 8-Jun-2000; LatestRevisionDate: 17-Jul-2002; LatestRevisionNote: Re-released for DXP Platform.; PackageReference: AXIAL-0.4; Publisher: Altium Limited
footprint AXIAL-0.4 (Resistor; 2 Leads)
simulation model RESISTOR (Resistor)
signal-integrity model Res
footprint 0805
footprint 0805 (Footprint not found)
pins: 1, 2

## Res2_6
designator R?, comment 20K
Resistor; Value: 15K; Published: 8-Jun-2000; LatestRevisionDate: 17-Jul-2002; LatestRevisionNote: Re-released for DXP Platform.; PackageReference: AXIAL-0.4; Publisher: Altium Limited
footprint AXIAL-0.4 (Resistor; 2 Leads)
simulation model RESISTOR (Resistor)
signal-integrity model Res
footprint 0603
footprint 0805
pins: 1, 2

## Res2_6_1
designator R?, comment MCWR08X1001FTL
SMD Chip Resistor, 0805 [2012 Metric], 1 kohm, MCWR Series, 150 V, Thick Film, 125 mW; Manufacturer Name: MULTICOMP; Value: 100R; Published: 8-Jun-2000; LatestRevisionDate: 17-Jul-2002; LatestRevisionNote: Re-released for DXP Platform.; PackageReference: AXIAL-0.4; Publisher: Altium Limited
footprint AXIAL-0.4 (Resistor; 2 Leads)
simulation model RESISTOR (Resistor)
signal-integrity model Res
footprint 0603
footprint 0805
pins: 1, 2

## Res2_7
designator R?, comment 10K
Resistor; Published: 8-Jun-2000; LatestRevisionDate: 17-Jul-2002; LatestRevisionNote: Re-released for DXP Platform.; PackageReference: AXIAL-0.4; Publisher: Altium Limited; Value: 10K
footprint AXIAL-0.4 (Resistor; 2 Leads)
simulation model RESISTOR (Resistor)
signal-integrity model Res
footprint 0603
footprint 0805
pins: 1, 2

## Res2_7_1
designator R?, comment 0R
Resistor; Value: 470R; Published: 8-Jun-2000; LatestRevisionDate: 17-Jul-2002; LatestRevisionNote: Re-released for DXP Platform.; PackageReference: AXIAL-0.4; Publisher: Altium Limited
footprint AXIAL-0.4 (Resistor; 2 Leads)
simulation model RESISTOR (Resistor)
signal-integrity model Res
footprint 0603
footprint 0805
pins: 1, 2

## Res2_8
designator R?, comment 470R
Resistor; Published: 8-Jun-2000; LatestRevisionDate: 17-Jul-2002; LatestRevisionNote: Re-released for DXP Platform.; PackageReference: AXIAL-0.4; Publisher: Altium Limited; Value: 470R
footprint AXIAL-0.4 (Resistor; 2 Leads)
simulation model RESISTOR (Resistor)
signal-integrity model Res
footprint 0603
footprint 0805
pins: 1, 2

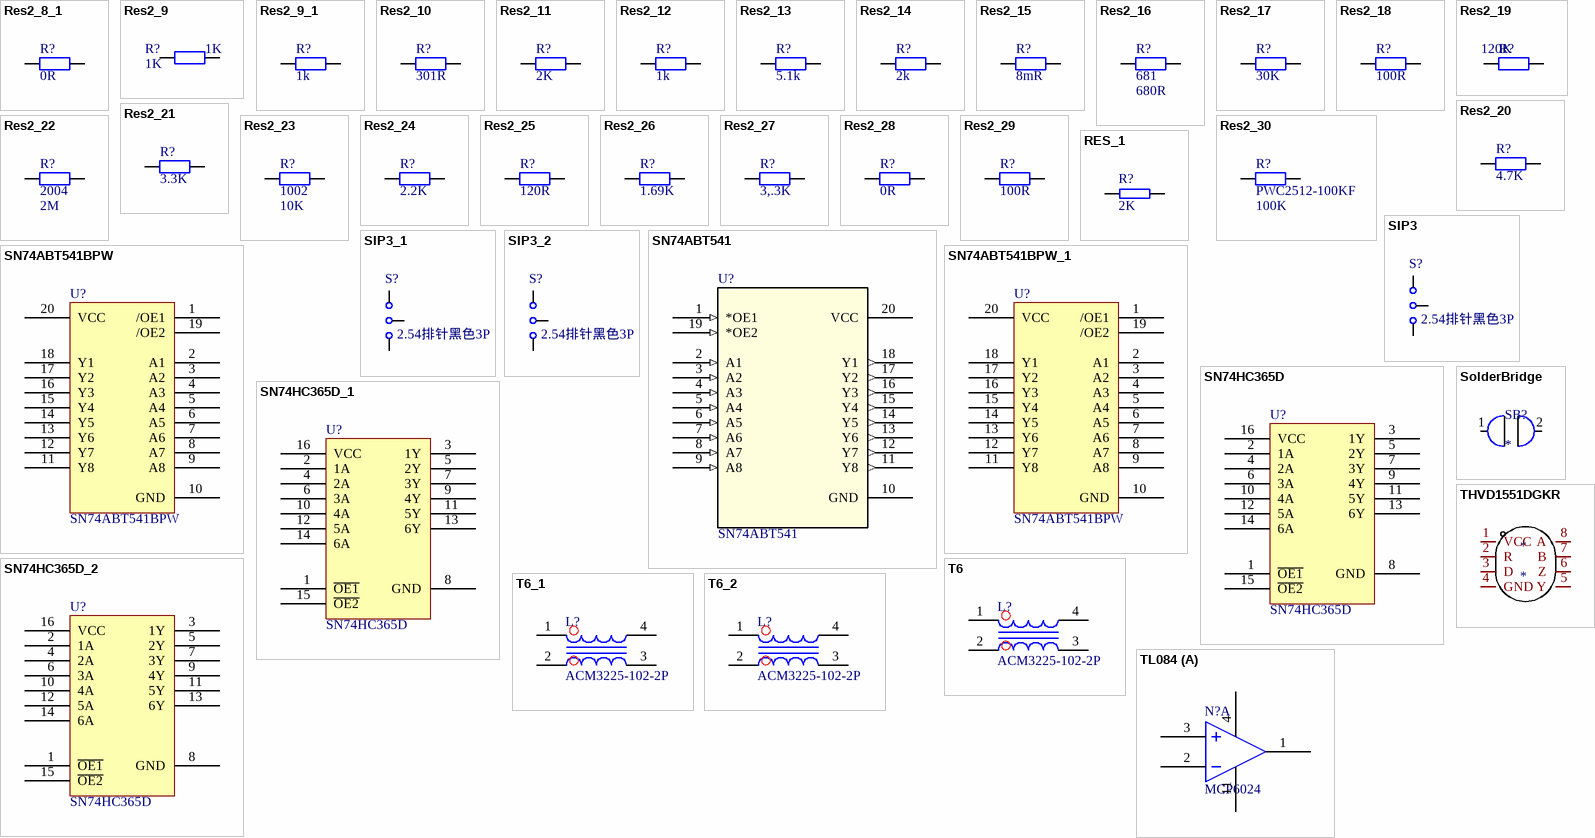
[diagram p5: symbols Res2_8_1 to TL084]

## Res2_8_1
designator R?, comment 0R
SMD Chip Resistor, 0805 [2012 Metric],; Manufacturer Name: PANASONIC ELECTRONIC COMPONENTS; Value: 5.1K; Published: 8-Jun-2000; LatestRevisionDate: 17-Jul-2002; LatestRevisionNote: Re-released for DXP Platform.; PackageReference: AXIAL-0.4; Publisher: Altium Limited
footprint AXIAL-0.4 (Resistor; 2 Leads)
simulation model RESISTOR (Resistor)
signal-integrity model Res
footprint 0603
footprint 0805
pins: 1, 2

## Res2_9
designator R?, comment 1K
Resistor; Published: 8-Jun-2000; LatestRevisionDate: 17-Jul-2002; LatestRevisionNote: Re-released for DXP Platform.; PackageReference: AXIAL-0.4; Publisher: Altium Limited; Value: 1K
footprint AXIAL-0.4 (Resistor; 2 Leads)
simulation model RESISTOR (Resistor)
signal-integrity model Res
footprint 0805
pins: 1, 2

## Res2_9_1
designator R?, comment 1k
Resistor; Published: 8-Jun-2000; LatestRevisionDate: 17-Jul-2002; LatestRevisionNote: Re-released for DXP Platform.; PackageReference: AXIAL-0.4; Publisher: Altium Limited; PackageDescription: Axial Device, Thru-Hole; 2 Leads; 0.4 in Pin Spacing; Value: 1K
footprint AXIAL-0.4 (Axial Device, Thru-Hole; 2 Leads; 0.4 in Pin Spacing)
simulation model RESISTOR (Resistor)
signal-integrity model Res
footprint 0805
footprint 0805
footprint 0805 (Footprint not found)
pins: 1, 2

## Res2_10
designator R?, comment 301R
Resistor; Value: 300R; Published: 8-Jun-2000; LatestRevisionDate: 17-Jul-2002; LatestRevisionNote: Re-released for DXP Platform.; PackageReference: AXIAL-0.4; Publisher: Altium Limited
footprint AXIAL-0.4 (Resistor; 2 Leads)
simulation model RESISTOR (Resistor)
signal-integrity model Res
footprint 0805
pins: 1, 2

## Res2_11
designator R?, comment 2K
Resistor; Published: 8-Jun-2000; LatestRevisionDate: 17-Jul-2002; LatestRevisionNote: Re-released for DXP Platform.; PackageReference: AXIAL-0.4; Publisher: Altium Limited; Value: 2K
footprint AXIAL-0.4 (Resistor; 2 Leads)
simulation model RESISTOR (Resistor)
signal-integrity model Res
footprint 0805
pins: 1, 2

## Res2_12
designator R?, comment 1k
Resistor; Published: 8-Jun-2000; LatestRevisionDate: 17-Jul-2002; LatestRevisionNote: Re-released for DXP Platform.; PackageReference: AXIAL-0.4; Publisher: Altium Limited
footprint AXIAL-0.4 (Resistor; 2 Leads)
simulation model RESISTOR (Resistor)
signal-integrity model Res
footprint 0805
pins: 1, 2

## Res2_13
designator R?, comment 5.1k
Resistor; Published: 8-Jun-2000; LatestRevisionDate: 17-Jul-2002; LatestRevisionNote: Re-released for DXP Platform.; PackageReference: AXIAL-0.4; Publisher: Altium Limited
footprint AXIAL-0.4 (Resistor; 2 Leads)
simulation model RESISTOR (Resistor)
signal-integrity model Res
footprint 0805
pins: 1, 2

## Res2_14
designator R?, comment 2k
Resistor; Published: 8-Jun-2000; LatestRevisionDate: 17-Jul-2002; LatestRevisionNote: Re-released for DXP Platform.; PackageReference: AXIAL-0.4; Publisher: Altium Limited
footprint AXIAL-0.4 (Resistor; 2 Leads)
simulation model RESISTOR (Resistor)
signal-integrity model Res
footprint 0805
pins: 1, 2

## Res2_15
designator R?, comment 8mR
Resistor; Value: 3.3K; Published: 8-Jun-2000; LatestRevisionDate: 17-Jul-2002; LatestRevisionNote: Re-released for DXP Platform.; PackageReference: AXIAL-0.4; Publisher: Altium Limited; PackageDescription: Axial Device, Thru-Hole; 2 Leads; 0.4 in Pin Spacing
footprint AXIAL-0.4 (Axial Device, Thru-Hole; 2 Leads; 0.4 in Pin Spacing)
simulation model RESISTOR (Resistor)
signal-integrity model Res
footprint 2512
pins: 1, 2

## Res2_16
designator R?, comment 681  value 680R
Resistor; Published: 8-Jun-2000; LatestRevisionDate: 17-Jul-2002; LatestRevisionNote: Re-released for DXP Platform.; PackageReference: AXIAL-0.4; Publisher: Altium Limited
footprint AXIAL-0.4 (Resistor; 2 Leads)
simulation model RESISTOR (Resistor)
signal-integrity model Res
footprint 0805
pins: 1, 2

## Res2_17
designator R?, comment 30K
Resistor; Value: 33K; Published: 8-Jun-2000; LatestRevisionDate: 17-Jul-2002; LatestRevisionNote: Re-released for DXP Platform.; PackageReference: AXIAL-0.4; Publisher: Altium Limited
footprint AXIAL-0.4 (Resistor; 2 Leads)
simulation model RESISTOR (Resistor)
signal-integrity model Res
footprint 0603
footprint 0805
pins: 1, 2

## Res2_18
designator R?, comment 100R
Resistor; Published: 8-Jun-2000; LatestRevisionDate: 17-Jul-2002; LatestRevisionNote: Re-released for DXP Platform.; PackageReference: AXIAL-0.4; Publisher: Altium Limited; Value: 100R
footprint AXIAL-0.4 (Resistor; 2 Leads)
simulation model RESISTOR (Resistor)
signal-integrity model Res
footprint 0603
footprint 0805
pins: 1, 2

## Res2_19
designator R?, comment 120K
Resistor; Value: 100K; Published: 8-Jun-2000; LatestRevisionDate: 17-Jul-2002; LatestRevisionNote: Re-released for DXP Platform.; PackageReference: AXIAL-0.4; Publisher: Altium Limited
footprint AXIAL-0.4 (Resistor; 2 Leads)
simulation model RESISTOR (Resistor)
signal-integrity model Res
footprint 0603
footprint 0805
pins: 1, 2

## Res2_20
designator R?, comment 4.7K
Resistor; Published: 8-Jun-2000; LatestRevisionDate: 17-Jul-2002; LatestRevisionNote: Re-released for DXP Platform.; Publisher: Altium Limited
footprint AXIAL-0.4 (Resistor; 2 Leads)
simulation model RESISTOR (Resistor)
signal-integrity model Res
footprint 0805
pins: 1, 2

## Res2_21
designator R?, comment 3.3K
Resistor; Published: 8-Jun-2000; LatestRevisionDate: 17-Jul-2002; LatestRevisionNote: Re-released for DXP Platform.; Publisher: Altium Limited
footprint 0805
simulation model RESISTOR (Resistor)
signal-integrity model Res
pins: 1, 2

## Res2_22
designator R?, comment 2004  value 2M
Resistor; Published: 8-Jun-2000; LatestRevisionDate: 17-Jul-2002; LatestRevisionNote: Re-released for DXP Platform.; PackageReference: AXIAL-0.4; Publisher: Altium Limited
footprint AXIAL-0.4 (Resistor; 2 Leads)
simulation model RESISTOR (Resistor)
signal-integrity model Res
footprint 0805
footprint 1206
pins: 1, 2

## Res2_23
designator R?, comment 1002  value 10K
Resistor; Published: 8-Jun-2000; LatestRevisionDate: 17-Jul-2002; LatestRevisionNote: Re-released for DXP Platform.; PackageReference: AXIAL-0.4; Publisher: Altium Limited
footprint AXIAL-0.4 (Resistor; 2 Leads)
simulation model RESISTOR (Resistor)
signal-integrity model Res
footprint 0805
pins: 1, 2

## Res2_24
designator R?, comment 2.2K
Resistor; Published: 8-Jun-2000; LatestRevisionDate: 17-Jul-2002; LatestRevisionNote: Re-released for DXP Platform.; PackageReference: AXIAL-0.4; Publisher: Altium Limited; PackageDescription: Axial Device, Thru-Hole; 2 Leads; 0.4 in Pin Spacing; Value: 2.2K
footprint AXIAL-0.4 (Axial Device, Thru-Hole; 2 Leads; 0.4 in Pin Spacing)
simulation model RESISTOR (Resistor)
signal-integrity model Res
footprint 0805
pins: 1, 2

## Res2_25
designator R?, comment 120R
Resistor; Published: 8-Jun-2000; LatestRevisionDate: 17-Jul-2002; LatestRevisionNote: Re-released for DXP Platform.; PackageReference: AXIAL-0.4; Publisher: Altium Limited; PackageDescription: Axial Device, Thru-Hole; 2 Leads; 0.4 in Pin Spacing; Value: 120R
footprint 0805
simulation model RESISTOR (Resistor)
signal-integrity model Res
pins: 1, 2

## Res2_26
designator R?, comment 1.69K
Resistor; Value: 300R; Published: 8-Jun-2000; LatestRevisionDate: 17-Jul-2002; LatestRevisionNote: Re-released for DXP Platform.; PackageReference: AXIAL-0.4; Publisher: Altium Limited
footprint AXIAL-0.4 (Resistor; 2 Leads)
simulation model RESISTOR (Resistor)
signal-integrity model Res
footprint 0805
pins: 1, 2

## Res2_27
designator R?, comment 3,.3K
Resistor; Value: 300R; Published: 8-Jun-2000; LatestRevisionDate: 17-Jul-2002; LatestRevisionNote: Re-released for DXP Platform.; PackageReference: AXIAL-0.4; Publisher: Altium Limited
footprint AXIAL-0.4 (Resistor; 2 Leads)
simulation model RESISTOR (Resistor)
signal-integrity model Res
footprint 0805
pins: 1, 2

## Res2_28
designator R?, comment 0R
Resistor; Published: 8-Jun-2000; LatestRevisionDate: 17-Jul-2002; LatestRevisionNote: Re-released for DXP Platform.; PackageReference: AXIAL-0.4; Publisher: Altium Limited
footprint AXIAL-0.4 (Resistor; 2 Leads)
simulation model RESISTOR (Resistor)
signal-integrity model Res
footprint 0805
footprint 0805
pins: 1, 2

## Res2_29
designator R?, comment 100R
Resistor; Published: *; LatestRevisionDate: *; LatestRevisionNote: *; PackageReference: *; Publisher: *
footprint AXIAL-0.4
footprint 0805
footprint SM/R_0805
footprint R/0805/SMT
footprint 0805
pins: 1, 2
2 alternate drawings of the same symbol

## Res2_30
designator R?, comment PWC2512-100KF  value 100K
SMD Chip Resistor, 2512 [6432 Metric], 100 kohm, PWC Series, 500 V, Thick Film, 1.5 W; Manufacturer Name: TT ELECTRONICS / WELWYN; Published: 8-Jun-2000; LatestRevisionDate: 17-Jul-2002; LatestRevisionNote: Re-released for DXP Platform.; PackageReference: AXIAL-0.4; Publisher: Altium Limited
footprint AXIAL-0.4 (Resistor; 2 Leads)
simulation model RESISTOR (Resistor)
signal-integrity model Res
footprint 0805
footprint 2512 (Footprint not found)
pins: 1, 2

## RES_1
designator R?, comment 2K
footprint R/0805
footprint R/6/0.125/R2@
footprint R/10/0.25/R2
footprint R/10/0.25/R2@
footprint 1206
pins: 1, 2
2 alternate drawings of the same symbol

## SIP3
designator S?, comment 2.54排针黑色3P
footprint SIP3
pins: 1, 2, 3

## SIP3_1
designator S?, comment 2.54排针黑色3P
footprint SIP3
pins: 1, 2, 3

## SIP3_2
designator S?, comment 2.54排针黑色3P
footprint SIP3
pins: 1, 2, 3

## SN74ABT541
designator U?
SOIC-20-DW
footprint SOIC-20-DW
footprint SOIC-20-DW
footprint SOP-20(NS)
footprint TSSOP-20
pins: 1 *OE1 (in), 2 A1 (in), 3 A2 (in), 4 A3 (in), 5 A4 (in), 6 A5 (in), 7 A6 (in), 8 A7 (in), 9 A8 (in), 10 GND (power), 11 Y8 (out), 12 Y7 (out), 13 Y6 (out), 14 Y5 (out), 15 Y4 (out), 16 Y3 (out), 17 Y2 (out), 18 Y1 (out), 19 *OE2 (in), 20 VCC (power)

## SN74ABT541BPW
designator U?
footprint TSSOP-20
pins: 1 /OE1, 2 A1, 3 A2, 4 A3, 5 A4, 6 A5, 7 A6, 8 A7, 9 A8, 10 GND, 11 Y8, 12 Y7, 13 Y6, 14 Y5, 15 Y4, 16 Y3, 17 Y2, 18 Y1, 19 /OE2, 20 VCC

## SN74ABT541BPW_1
designator U?, comment SN74ABT541BPW
footprint TSSOP-20
pins: 1 /OE1, 2 A1, 3 A2, 4 A3, 5 A4, 6 A5, 7 A6, 8 A7, 9 A8, 10 GND, 11 Y8, 12 Y7, 13 Y6, 14 Y5, 15 Y4, 16 Y3, 17 Y2, 18 Y1, 19 /OE2, 20 VCC

## SN74HC365D
designator U?
footprint D016_N (SOIC, 16-Leads, Body 9.9x3.9mm, Pitch 1.27mm, IPC Medium Density)
pins: 1 ~{OE1}, 2 1A, 3 1Y, 4 2A, 5 2Y, 6 3A, 7 3Y, 8 GND, 9 4Y, 10 4A, 11 5Y, 12 5A, 13 6Y, 14 6A, 15 ~{OE2}, 16 VCC

## SN74HC365D_1
designator U?, comment SN74HC365D
footprint D016_N (SOIC, 16-Leads, Body 9.9x3.9mm, Pitch 1.27mm, IPC Medium Density)
pins: 1 ~{OE1}, 2 1A, 3 1Y, 4 2A, 5 2Y, 6 3A, 7 3Y, 8 GND, 9 4Y, 10 4A, 11 5Y, 12 5A, 13 6Y, 14 6A, 15 ~{OE2}, 16 VCC

## SN74HC365D_2
designator U?, comment SN74HC365D
footprint D016_N (SOIC, 16-Leads, Body 9.9x3.9mm, Pitch 1.27mm, IPC Medium Density)
pins: 1 ~{OE1}, 2 1A, 3 1Y, 4 2A, 5 2Y, 6 3A, 7 3Y, 8 GND, 9 4Y, 10 4A, 11 5Y, 12 5A, 13 6Y, 14 6A, 15 ~{OE2}, 16 VCC

## SolderBridge
designator SB?
footprint SolderBridge
pins: 1, 2

## T6
designator L?, comment ACM3225-102-2P
footprint ACM3225
pins: 1 Pri+, 2 Pri-, 3 Pri+, 4 Sec-

## T6_1
designator L?, comment ACM3225-102-2P
footprint ACM3225
pins: 1 Pri+, 2 Pri-, 3 Pri+, 4 Sec-

## T6_2
designator L?, comment ACM3225-102-2P
footprint ACM3225
pins: 1 Pri+, 2 Pri-, 3 Pri+, 4 Sec-

## THVD1551DGKR
designator *
pins: 1 VCC, 2 R, 3 D, 4 GND, 5 Y, 6 Z, 7 B, 8 A

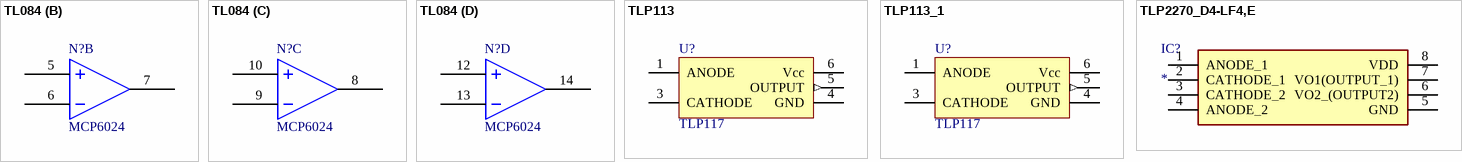
[diagram p6: symbols TL084 to TLP2270_D4-LF4,E]

## TL084
designator N?, comment MCP6024
footprint SOIC14_M (14-Pin Small Outline Integrated Circuit 1.27 mm Pitch, IPC Low Density)
part A pins: 1, 2, 3, 4, 11
part B pins: 5, 6, 7
part C pins: 8, 9, 10
part D pins: 12, 13, 14
2 alternate drawings of the same symbol

## TLP113
designator U?, comment TLP117
footprint TLP113
pins: 1 ANODE, 3 CATHODE, 4 GND (power), 5 OUTPUT (out), 6 Vcc (power)

## TLP113_1
designator U?, comment TLP117
footprint TLP113
pins: 1 ANODE, 3 CATHODE, 4 GND (power), 5 OUTPUT (out), 6 Vcc (power)

## TLP2270_D4-LF4,E
designator IC?
Integrated Circuit; Manufacturer_Name: Toshiba; Manufacturer_Part_Number: TLP2270(D4-LF4,E; Datasheet Link: http://toshiba.semicon-storage.com/info/docget.jsp?did=54624&prodName=TLP2270; Height: 2.2mm; Mouser Part Number: 757-TLP2270D4-LF4E; Mouser Price/Stock: https://www.mouser.co.uk/ProductDetail/Toshiba/TLP2270D4-LF4E?qs=byeeYqUIh0MHPEM80CcHUQ%3D%3D; Arrow Part Number: TLP2270(D4-LF4,E; Arrow Price/Stock: https://www.arrow.com/en/products/tlp2270-d4-lf4e/toshiba
footprint SOIC127P1105X220-8N
pins: 1 ANODE_1, 2 CATHODE_1, 3 CATHODE_2, 4 ANODE_2, 5 GND, 6 VO2_(OUTPUT2), 7 VO1(OUTPUT_1), 8 VDD

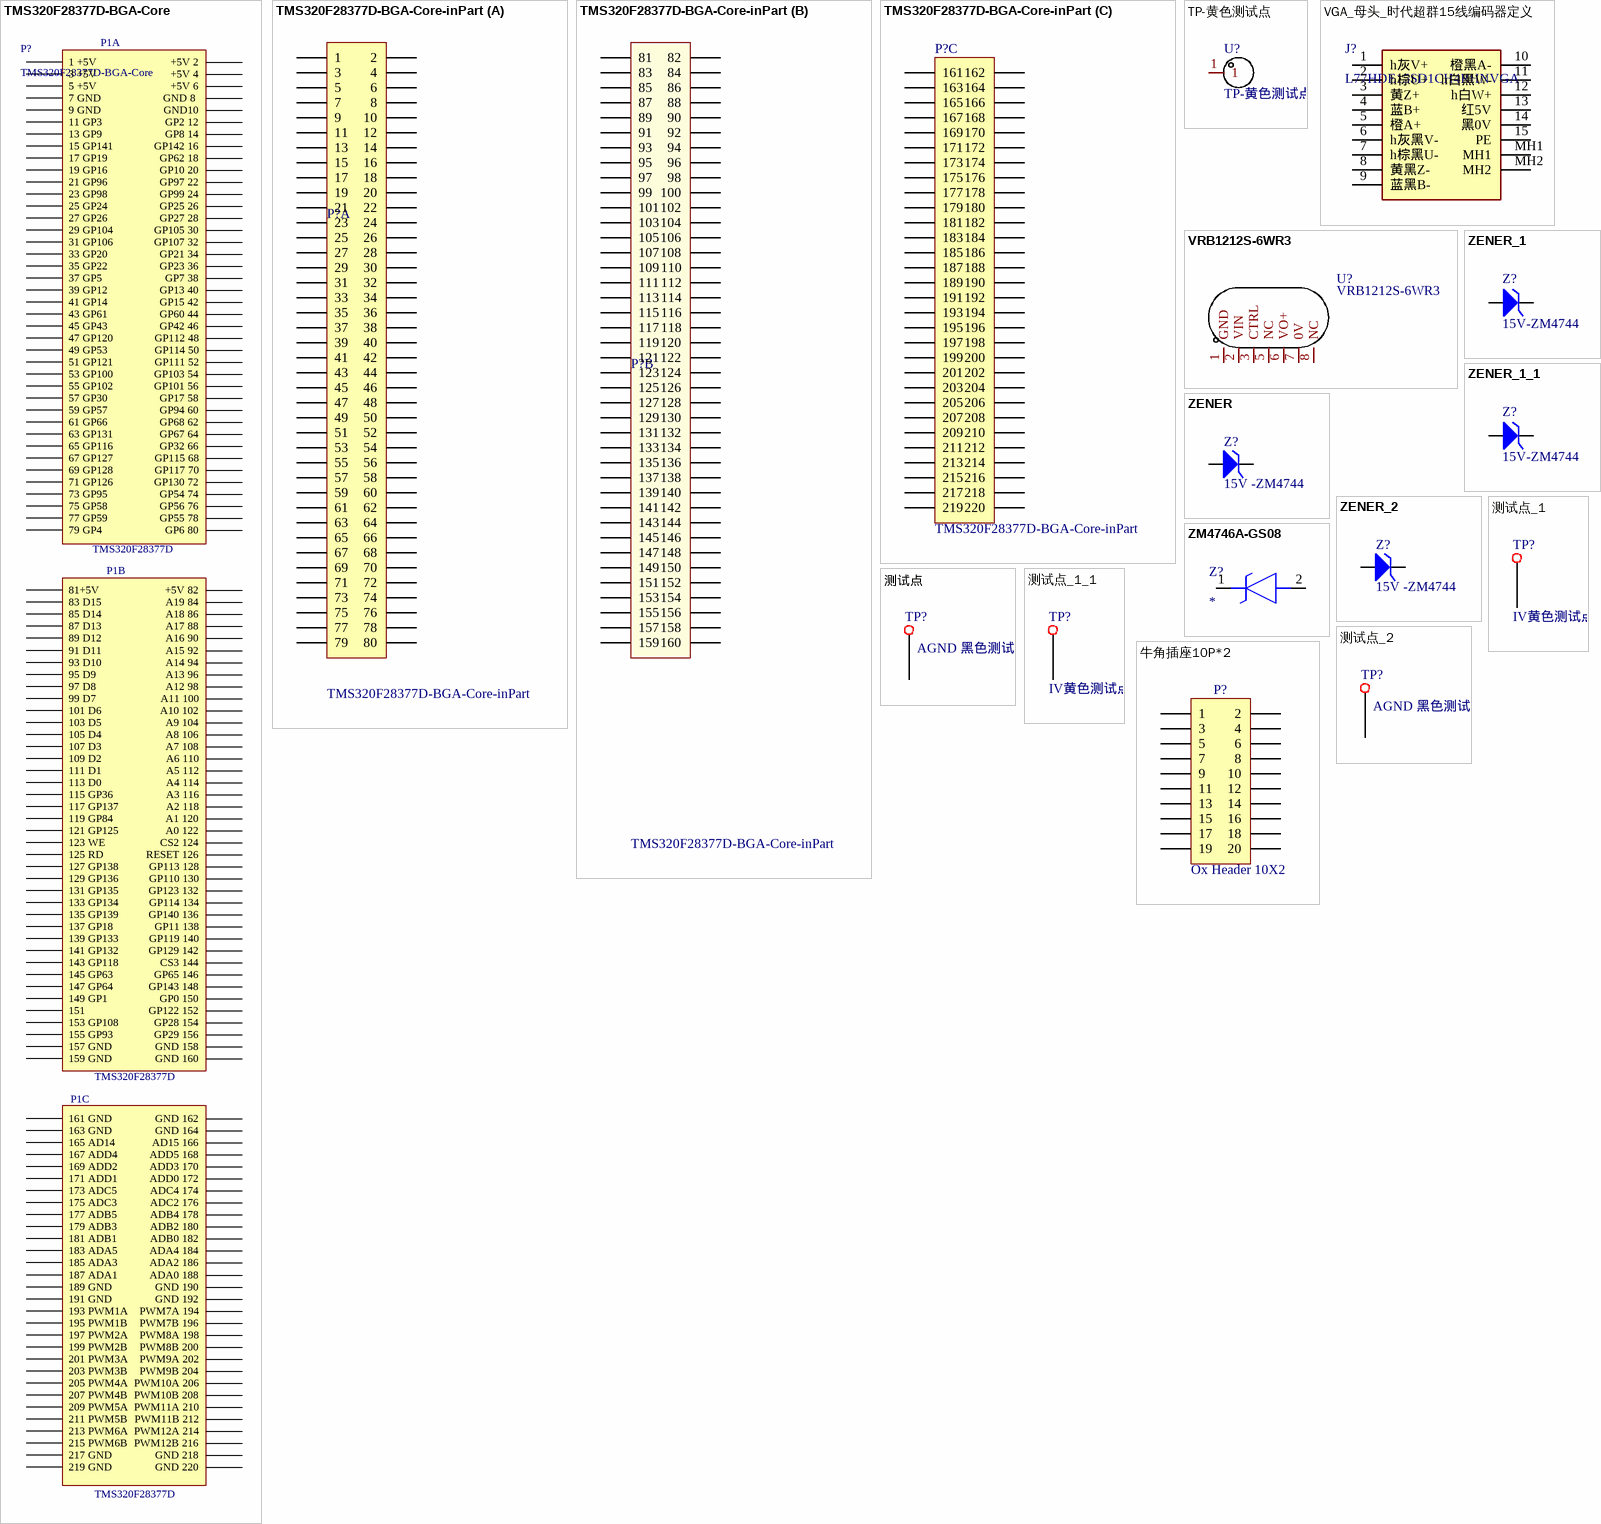
[diagram p7: symbols TMS320F28377D-BGA-Core to 牛角插座10P*2]

## TMS320F28377D-BGA-Core
designator P?
footprint DSP_240_0p6mm (The hole size is reduced to 0.6 mm)
pins: 1 1 +5V, 2 +5V 2, 3 3 +5V, 4 +5V 4, 5 5 +5V, 6 +5V 6, 7 7 GND, 8 GND 8 , 9 9 GND, 10 GND10, 11 11 GP3, 12 GP2 12, 13 13 GP9, 14 GP8 14, 15 15 GP141, 16 GP142 16, 17 17 GP19, 18 GP62 18, 19 19 GP16, 20 GP10 20, 21 21 GP96, 22 GP97 22, 23 23 GP98, 24 GP99 24, 25 25 GP24, 26 GP25 26, 27 27 GP26, 28 GP27 28, 29 29 GP104, 30 GP105 30, 31 31 GP106, 32  GP107 32, 33 33 GP20, 34 GP21 34, 35 35 GP22, 36 GP23 36, 37 37 GP5, 38 GP7 38, 39 39 GP12, 40 GP13 40, 41 41 GP14, 42 GP15 42, 43 43 GP61, 44 GP60 44, 45 45 GP43, 46 GP42 46, 47 47 GP120, 48 GP112 48, 49 49 GP53, 50 GP114 50, 51 51 GP121, 52 GP111 52, 53 53 GP100, 54 GP103 54, 55 55 GP102, 56 GP101 56, 57 57 GP30, 58 GP17 58, 59 59 GP57, 60 GP94 60, 61 61 GP66, 62 GP68 62, 63 63 GP131, 64 GP67 64, 65 65 GP116, 66 GP32 66, 67 67 GP127, 68 GP115 68, 69 69 GP128, 70 GP117 70, 71 71 GP126, 72 GP130 72, 73 73 GP95, 74 GP54 74, 75 75 GP58, 76 GP56 76, 77 77 GP59, 78 GP55 78, 79 79 GP4, 80 GP6 80, 81 81+5V, 82 +5V 82, 83 83 D15, 84 A19 84, 85 85 D14, 86 A18 86, 87 87 D13, 88 A17 88, 89 89 D12, 90 A16 90, 91 91 D11, 92 A15 92, 93 93 D10, 94 A14 94, 95 95 D9, 96 A13 96, 97 97 D8, 98 A12 98, 99 99 D7, 100 A11 100, 101 101 D6, 102 A10 102, 103 103 D5, 104 A9 104, 105 105 D4, 106 A8 106, 107 107 D3, 108 A7 108, 109 109 D2, 110 A6 110, 111 111 D1, 112 A5 112, 113 113 D0, 114 A4 114, 115 115 GP36, 116 A3 116, 117 117 GP137, 118 A2 118, 119 119 GP84, 120 A1 120, 121 121 GP125, 122 A0 122, 123 123 WE, 124 CS2 124, 125 125 RD, 126 RESET 126, 127 127 GP138, 128 GP113 128, 129 129 GP136, 130 GP110 130, 131 131 GP135, 132 GP123 132, 133 133 GP134, 134 GP114 134, 135 135 GP139, 136 GP140 136, 137 137 GP18, 138 GP11 138, 139 139 GP133, 140 GP119 140, 141 141 GP132, 142 GP129 142, 143 143 GP118, 144 CS3 144, 145 145 GP63, 146 GP65 146, 147 147 GP64, 148 GP143 148, 149 149 GP1, 150 GP0 150, 151, 152 GP122 152, 153 153 GP108, 154 GP28 154, 155 155 GP93, 156 GP29 156, 157 157 GND, 158 GND 158, 159 159 GND, 160 GND 160, 161 161 GND, 162 GND 162, 163 163 GND, 164 GND 164, 165 165 AD14, 166 AD15 166, 167 167 ADD4, 168 ADD5 168, 169 169 ADD2, 170 ADD3 170, 171 171 ADD1, 172 ADD0 172, 173 173 ADC5, 174 ADC4 174, 175 175 ADC3, 176 ADC2 176, 177 177 ADB5, 178 ADB4 178, 179 179 ADB3, 180 ADB2 180, 181 181 ADB1, 182 ADB0 182, 183 183 ADA5, 184 ADA4 184, 185 185 ADA3, 186 ADA2 186, 187 187 ADA1, 188 ADA0 188, 189 189 GND, 190 GND 190, 191 191 GND, 192 GND 192, 193 193 PWM1A, 194 PWM7A 194, 195 195 PWM1B, 196 PWM7B 196, 197 197 PWM2A, 198 PWM8A 198, 199 199 PWM2B, 200 PWM8B 200, 201 201 PWM3A, 202 PWM9A 202, 203 203 PWM3B, 204 PWM9B 204, 205 205 PWM4A, 206 PWM10A 206, 207 207 PWM4B, 208 PWM10B 208, 209 209 PWM5A, 210 PWM11A 210, 211 211 PWM5B, 212 PWM11B 212, 213 213 PWM6A, 214 PWM12A 214, 215 215 PWM6B, 216 PWM12B 216, 217 217 GND, 218 GND 218, 219 219 GND, 220 GND 220
text: P1A; TMS320F28377D; P1B; P1C

## TMS320F28377D-BGA-Core-inPart
designator P?
footprint DSP_240
part A pins: 1, 2, 3, 4, 5, 6, 7, 8, 9, 10, 11, 12, 13, 14, 15, 16, 17, 18, 19, 20, 21, 22, 23, 24, 25, 26, 27, 28, 29, 30, 31, 32, 33, 34, 35, 36, 37, 38, 39, 40, 41, 42, 43, 44, 45, 46, 47, 48, 49, 50, 51, 52, 53, 54, 55, 56, 57, 58, 59, 60, 61, 62, 63, 64, 65, 66, 67, 68, 69, 70, 71, 72, 73, 74, 75, 76, 77, 78, 79, 80
part B pins: 81, 82, 83, 84, 85, 86, 87, 88, 89, 90, 91, 92, 93, 94, 95, 96, 97, 98, 99, 100, 101, 102, 103, 104, 105, 106, 107, 108, 109, 110, 111, 112, 113, 114, 115, 116, 117, 118, 119, 120, 121, 122, 123, 124, 125, 126, 127, 128, 129, 130, 131, 132, 133, 134, 135, 136, 137, 138, 139, 140, 141, 142, 143, 144, 145, 146, 147, 148, 149, 150, 151, 152, 153, 154, 155, 156, 157, 158, 159, 160
part C pins: 161, 162, 163, 164, 165, 166, 167, 168, 169, 170, 171, 172, 173, 174, 175, 176, 177, 178, 179, 180, 181, 182, 183, 184, 185, 186, 187, 188, 189, 190, 191, 192, 193, 194, 195, 196, 197, 198, 199, 200, 201, 202, 203, 204, 205, 206, 207, 208, 209, 210, 211, 212, 213, 214, 215, 216, 217, 218, 219, 220